# Altium schematic symbol library library1.SchLib: 22 symbols
Pins are listed as number, name and electrical type; pins without a type are passive.

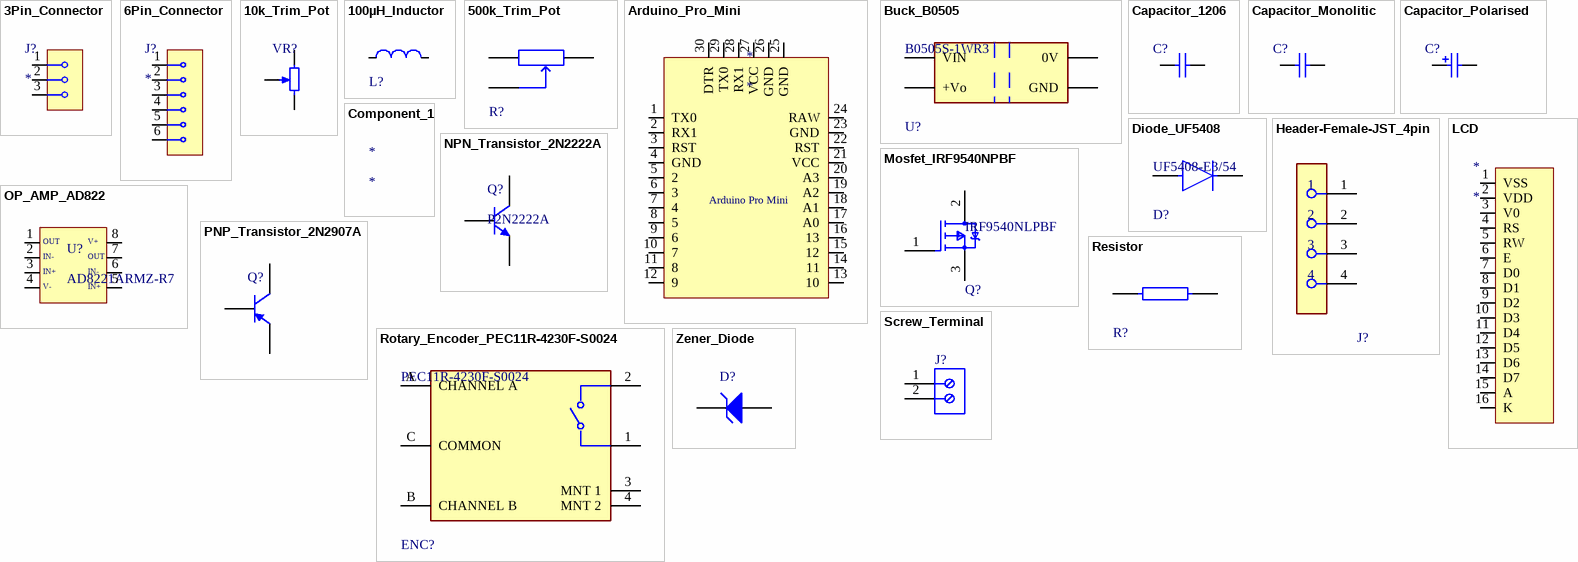
[diagram p0: symbols 3Pin_Connector to Zener_Diode]

## 3Pin_Connector
designator J?
footprint 3Pin_Connector
pins: 1, 2, 3

## 6Pin_Connector
designator J?
footprint 6Pin_Connector
pins: 1, 2, 3, 4, 5, 6

## 10k_Trim_Pot
designator VR?
Voltage Rating: 220 mV; Power Rating: 1 W; Tolerance: 1%; Resistance: 50 mohm; Case/Package: 1206; Length: 3.2 mm; RoHSCompliant: True; PackageDescription: 3-Pin Through Hole Device, Body 6.6 x 6.99 mm, Pitch 2.54 mm; ComponentLink2Description: Datasheet; REACH SVHC: No SVHC; Mount: Surface Mount; Height: 0.6 mm; Packaging: Tape and Reel; ComponentLink1URL: http://www.bourns.com/; Case Code (Imperial): 0612; Pins: 2; Case Code (Metric): 1632; ComponentLink2URL: http://www.bourns.com/docs/Product-Datasheets/3362.pdf; Min Operating Temperature: -25degC; ComponentLink1Description: Manufacturer URL; PackageReference: 3326P; Max Operating Temperature: 125degC; Width: 1.6 mm; Package Quantity: 5000; DatasheetVersion: May-16
footprint 10k_Trim_Pot
pins: 1 CCW, 2 S, 3 CW

## 100µH_Inductor
designator L?
Inductance: 100uH; Sample Rate (Hz): 100kHz; Inductance Tolerance: 20%; DC Resistance (DCR): 494mR; Shielding: Shielded; Current Rating: 700mA; Saturation Current: 800mA; Material: Steel; Core Material: Ferrite; Self Resonant Frequency: 5MHz; Termination: SMD/SMT; Packaging: Tape and Reel; Resistor Type: Wirewound; Height: 4.5mm; Number of Pins: 2; Radiation Hardening: No; Height - Seated (Max): 0.177inch; Military Standard: Not; Max DC Current: 700mA; Depth: 6.2mm; Length: 6mm; Weight: 0.027725oz; RoHS Compliant: Yes; Mount: Surface Mount; REACH SVHC: No SVHC; Test Frequency: 100kHz; Tolerance: 20%; Package Quantity: 1000; Width: 6mm; Series: SRN6045; DC Current: 700mA; RMS Current (Irms): 700mA; Case/Package: Nonstandard; Min Operating Temperature: -40°C; Max Operating Temperature: 125°C
footprint Coil
pins: 1, 2

## 500k_Trim_Pot
designator R?
TRIMMER 500K OHM 0.5W PC PIN TOP; Manufacturer: Bourns; Manufacturer Part Number: 3296W-1-504LF; Resistance: 500kΩ; Temperature Coefficient: 100ppm/°C; Value: 500kΩ; Tolerance: 10%; Voltage Rating: 300V; Standoff Height: 0.38mm; ComponentLink2Description: Datasheet; Package: 3296W; Series: Trimpot 3296-Sealed; Lead Free: Yes; Octopart: https://octopart.com/3296w-1-504lf-bourns-143884; Device Class L2: Resistors; Automotive: No; RoHS: TRUE; Temperature Range High: +125°C; Height: 12.05mm; Power Rating: 0.5W; Temperature Range Low: -55°C; ComponentLink2URL: https://www.bourns.com/docs/Product-Datasheets/3296.pdf; Device Class L1: Passive Components; Device Class L3: Variable Resistors and Potentiometers; Category: Res; Temperature: -55°C to +125°C; Digikey Description: TRIMMER 500K OHM 0.5W PC PIN TOP; Mouser Description: Trimmer; Cermet; Rest 500 Kilohms; PCB; 25 Turns; Pwr-Rtg 0.5W
footprint 500k_Trim_Pot
pins: 1 CCW, 2 WIPER, 3 CW

## Arduino_Pro_Mini
designator *
footprint Arduino_Mini_Pro
pins: 1 TX0, 2 RX1, 3 RST, 4 GND, 5 2, 6 3, 7 4, 8 5, 9 6, 10 7, 11 8, 12 9, 13 10, 14 11, 15 12, 16 13, 17 A0, 18 A1, 19 A2, 20 A3, 21 VCC, 22 RST, 23 GND, 24 RAW, 25 GND, 26 GND, 27 VCC, 28 RX1, 29 TX0, 30 DTR
text: Arduino Pro Mini

## Buck_B0505
designator U?, comment B0505S-1WR3
DC DC Converter 5V 1W
footprint Buck_B0505S-1WR3
pins: 1 GND, 2 VIN, 3 0V, 4 +Vo

## Capacitor_1206
designator C?
CAP, Ceramic, 0.1 uF, +/- 10%, 50 V, -55 to 125 degC, 1206 (3216 Metric), RoHS, Tape and Reel; Manufacturer: Kemet; Voltage Rating: 50V; Capacitance: 0.1µF; Product Range: KEMET-CSeries; SVHC: ToBeAdvised; Dielectric Characteristic: X7R; Capacitor Case Style: 1206[3216Metric]; Package Reference: 1206-2; Package Description: 2-Leads SMD, Body 3.2 x 1.6 mm; Packaging: Tape&Reel; Operating Temperature Max: 125degC; Capacitance Tolerance: ±10%; Datasheet URL: https://datasheet.ciiva.com/6125/1725438-6125494.pdf; Manufacturer URL: http://www.kemet.com/; Operating Temperature Min: -55degC; Datasheet Version: Jul-13
footprint Capacitor_1206 (SMD, 2-Leads, Body 3.4x1.8mm, IPC High Density)
pins: 1, 2

## Capacitor_Monolitic
designator C?
Manufacturer: Murata; Packaging type: Bulk; CS: 5mm; Tolerance: 10%; Capacity (elec.): 10nF; Material: Ceramic; Type: radiallead; Industrial packaging: Yes; Nominal voltage: 1000V; Content: 500pc(s); Category: Ceramiccapacitor; Datasheet Version: 06/2016; Package Reference: DEBF33A103ZA2B; Mounting Technology: ThroughHole; Package Description: 2-Pin Through Hole Device, Body 4 x 10 mm, Pitch 5 mm; Datasheet URL: http://psearch.en.murata.com/capacitor/product/DEBF33A103ZA2B.pdf; Manufacturer URL: http://www.murata.com/
footprint Capacitor_Monolitoc
pins: 1, 2

## Capacitor_Polarised
designator C?
Manufacturer: Murata; Packaging type: Bulk; CS: 5mm; Tolerance: 10%; Capacity (elec.): 10nF; Material: Ceramic; Type: radiallead; Industrial packaging: Yes; Nominal voltage: 1000V; Content: 500pc(s); Category: Ceramiccapacitor; Datasheet Version: 06/2016; Package Reference: DEBF33A103ZA2B; Mounting Technology: ThroughHole; Package Description: 2-Pin Through Hole Device, Body 4 x 10 mm, Pitch 5 mm; Datasheet URL: http://psearch.en.murata.com/capacitor/product/DEBF33A103ZA2B.pdf; Manufacturer URL: http://www.murata.com/
footprint Capacitor_Polarised
pins: 1, 2

## Component_1
designator *

## Diode_UF5408
designator D?, comment UF5408-E3/54
Capacitance: 36pF; Average Rectified Current: 3A; Recovery Time: 75ns; Max Reverse Current: 10uA; Outside Diameter: 5.3mm; Forward Voltage: 1.7V; Peak Non-Repetitive Surge Current: 150A; Max Repetitive Reverse Voltage (Vrrm): 1kV; Element Configuration: Single; Polarity: Standard; Width: 5.3mm; Mount: Through Hole; Number of Pins: 2; Case/Package: DO-201AD; Series: -; Packaging: Tape and Reel; Max Surge Current: 150A; Length: 9.5mm; Lead Free: Lead Free; Termination: Axial; Reverse Recovery Time-Max: 75ns; Max Operating Temperature: 150°C; Height: 5.3mm; Forward Current: 3A; Radiation Hardening: No; RoHS Compliant: Yes; Min Operating Temperature: -55°C; Output Current: 3A; Reverse Voltage: 1kV; Reverse Recovery Time: 75ns; Max Forward Surge Current (Ifsm): 150A; Package Quantity: 1; Max Reverse Voltage (DC): 1kV
footprint Zener_Diode (AXIAL, 2-Leads, Diameter 2.35mm)
pins: 1 C, 2 A

## Header-Female-JST_4pin
designator J?
Contact Resistance: 10mR; Number of Positions: 4; Pitch: 2.54mm; Gender: Female; Connector Type: Receptacle; Max Current Rating: 1A; Color: Black; Contact Material: Copper; Min Operating Temperature: -55°C; Max Operating Temperature: 125°C; Radiation Hardening: No; Termination: Solder; Depth: 2.54mm; Contact Plating: Gold; Orientation: Straight; Housing Color: Black; Width: 2.54mm; RoHS Compliant: Yes; Lead Free: Lead Free; Mount: Through Hole; Series: SS; Length: 10.16mm; Packaging: Bulk; Package Quantity: 1; Housing Material: Polyester; Number of Contacts: 4; Number of Rows: 1
footprint Header-Female-JST_4pin
pins: 1, 2, 3, 4

## LCD
designator *
footprint LCD
pins: 1 VSS, 2 VDD, 3 V0, 4 RS, 5 RW, 6 E, 7 D0, 8 D1, 9 D2, 10 D3, 11 D4, 12 D5, 13 D6, 14 D7, 15 A, 16 K

## Mosfet_IRF9540NPBF
designator Q?, comment IRF9540NLPBF
Number of Channels: 1; Max Dual Supply Voltage: -100V; Rise Time: 67ns; Max Power Dissipation: 3.1W; Gate to Source Voltage (Vgs): 20V; Drain to Source Resistance: 117mR; Turn-On Delay Time: 13ns; Turn-Off Delay Time: 40ns; Threshold Voltage: 4V; Input Capacitance: 1.45nF; Continuous Drain Current (ID): 23A; Power Dissipation: 110W; Length: 0.42inch; Max Operating Temperature: 150°C; Case/Package: TO-262; Packaging: Rail/Tube; Height: 0.38inch; Drain to Source Voltage (Vdss): -100V; Lead Free: Contains Lead; Rds On Max: 117mR; Width: 0.19inch; Min Operating Temperature: -55°C; RoHS Compliant: Yes; Mount: Through Hole; Number of Pins: 3; Halogen Free: Not Halogen Free; REACH SVHC: No SVHC
footprint Mosfet_IRF9540NPBF
pins: 1 G, 2 D, 3 S

## NPN_Transistor_2N2222A
designator Q?, comment P2N2222A
PartNumber: P2N2222AG; Manufacturer: On Semiconductor; IC Continuous (A): 0.6; Polarity: NPN; Packing: Bulk Box; fT Min (MHz): 300; ComponentLink2Description: Datasheet; ComponentLink1Description: Manufacturer URL; ComponentLink2URL: http://www.onsemi.com/pub_link/Collateral/P2N2222A-D.PDF; ComponentLink3Description: Package Specification; RoHS: TRUE; ComponentLink1URL: http://www.onsemi.com/; Mounting Technology: Through Hole; PackageReference: TO-92-3-29-11_AM_SL; DatasheetVersion: Rev. 7; PackageDescription: 3-Pin Transistor Outline, Body 4.825 x 3.685 mm, Pitch 1.27 mm; PackageVersion: Rev. AM; ComponentLink3URL: http://www.onsemi.cn/pub_link/Collateral/2N6426-D.PDF
footprint NPN_Transistor_2N2222A
pins: 1 C, 2 B, 3 E

## OP_AMP_AD822
designator U?, comment AD8221ARMZ-R7
Manufacturer: Analog Devices; Packing: Tape and Reel; -3dB Bandwidth@G: 1=825 kHz; VIO: 60 uV Max.; Quiescent Current: 0.9 mA Typ.; Slew Rate@G: 1=2 V/us Typ.; PartNumber: AD8221ARMZ-R7; ComponentLink3Description: Package Specification; PackageVersion: Aug-05; Temperature Range: -40 to 125 degC; RoHS: TRUE; ComponentLink3URL: http://www.analog.com/static/imported-files/packages/PKG_PDF/MSOP(RM)/RM_8.pdf; PackageDescription: 8-Pin Mini Small Outline Package, Body 3 x 3 mm, Pitch 0.65 mm; ComponentLink1URL: http://www.analog.com/en/index.html; ComponentLink2URL: http://www.analog.com/static/imported-files/data_sheets/AD8221.pdf; ComponentLink2Description: Datasheet; ComponentLink1Description: Manufacturer URL; DatasheetVersion: Rev. C; Mounting Technology: Surface Mount
footprint DIP8_AD822
pins: 1, 2, 3, 4, 5, 6, 7, 8
text: OUT; V+; IN-; IN+; V-

## PNP_Transistor_2N2907A
designator Q?
Manufacturer: On Semiconductor; PartNumber: MPSA92G; IC Continuous (A): -0.5; Polarity: PNP; fT Min (MHz): 50; Packing: Bulk Box; DatasheetVersion: Rev. 6; ComponentLink2Description: Datasheet; PackageReference: TO-92-3-29-11_AM_SL; RoHS: TRUE; ComponentLink3Description: Package Specification; PackageDescription: 3-Pin Transistor Outline, Body 4.825 x 3.685 mm, Pitch 1.27 mm; ComponentLink3URL: http://www.onsemi.cn/pub_link/Collateral/2N6426-D.PDF; ComponentLink1Description: Manufacturer URL; ComponentLink1URL: http://www.onsemi.com/; Mounting Technology: Through Hole; ComponentLink2URL: http://www.onsemi.cn/pub_link/Collateral/MPSA92-D.PDF; PackageVersion: Rev. AM
footprint PNP_Transistor_2N2907A
pins: 1 E, 2 B, 3 C

## Resistor
designator R?
NexarPartId: 44386654; Tolerance: 1%; Max Power Dissipation: 250mW; Voltage Rating: 200V; Power Rating: 125mW; Temperature Coefficient: 50ppm/°C; Resistance: 73.2kΩ; Width: 1.65mm; Length: 3.81mm; Schedule B: 8533210090, 8533210090|8533210090|8533210090|8533210090|8533210090; Termination: Axial; Lead Free: Lead Free; Diameter: 1.65mm; Voltage Rating (DC): 200V; Packaging: Cut Tape; Max Operating Temperature: 175°C; Composition: Metal Film; RoHS: Compliant; Mount: Through Hole; Features: Flame Retardant Coating, Moisture Resistant; Number of Terminations: 2; Min Operating Temperature: -55°C; Case/Package: Axial
footprint RESISTOR
pins: 1, 2

## Rotary_Encoder_PEC11R-4230F-S0024
designator ENC?, comment PEC11R-4230F-S0024
ROTARY ENCODER MECHANICAL 24PPR; Detent: Yes; Number of Channels: 2; Output Type: Quadrature; Pulses per Revolution: 24; Hole Diameter: 1.8mm; Package Quantity: 75; REACH SVHC: No SVHC; Width: 12.5mm; Packaging: Bulk; Orientation: Vertical; Mount: Through Hole; Length: 36.5mm; Height: 13.4mm; Series: PEC11R; Min Operating Temperature: -30°C; Built in Switch: Yes; Max Operating Temperature: 70°C; Encoder Type: Mechanical; Termination: PC Pin; RoHS Compliant: Yes
footprint Rotary_Encoder_PEC11R-4230F-S0024
pins: 1, 2, 3 MNT 1, 4 MNT 2, A CHANNEL A, B CHANNEL B, C COMMON

## Screw_Terminal
designator J?
NexarPartId: 18818288; Plating: Brass, Steel; Current: 10A; Pitch: 3.5052mm; Number of Levels: 1; Number of Contacts: 2; Wire Gauge (Min): 16AWG; Voltage: 300V; Wire Gauge (Max): 24AWG; Stripping Length: -6mm; Number of Pins: 2; Number of Rows: 1; REACH SVHC: Unknown; RoHS: Compliant; Housing Material: Nylon; Termination: Screw; Mount: Through Hole; Contact Plating: Brass, Tin; Number of Positions Per Level: 2; Color: Blue, Green; Width: 7.9mm; Voltage Rating: 300V; Length: 7.4mm; Current Rating: 10A; Wire/Cable Gauge: 24AWG; Packaging: Box; Max Operating Temperature: 105°C; Lead Pitch: 3.5mm; Height: 8.7mm; Contact Material: Brass; Min Operating Temperature: -40°C
footprint screw_terminal
pins: 1, 2

## Zener_Diode
designator D?
PartNumber: 1N5931BRLG; Manufacturer: On Semiconductor; Packing: Tape and Reel; VZ Typ (V): 18; DatasheetVersion: Rev. 5; PackageVersion: Rev. U, 02/2005; ComponentLink1URL: http://www.onsemi.com/; ComponentLink3URL: http://www.onsemi.cn/pub_link/Collateral/59-10.PDF; RoHS: Pb-Free; ComponentLink3Description: Package Specification; ComponentLink1Description: Manufacturer URL; PackageReference: AXIAL_LEAD-2-59-10; PackageDescription: 2-Pin, Axial Lead, Diameter 2.35 mm; ComponentLink2URL: http://www.onsemi.cn/pub_link/Collateral/1N5913B-D.PDF; ComponentLink2Description: Datasheet; Mounting Technology: Through Hole
footprint Zener_Diode (AXIAL, 2-Leads, Diameter 2.35mm)
pins: 1 K, 2 A